# Altium schematic symbol library B0505S.SchLib: 1 symbol
Pins are listed as number, name and electrical type; pins without a type are passive.

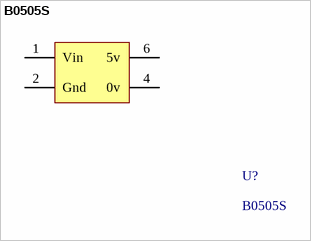
[diagram p0: symbol B0505S]

## B0505S
designator U?
cam
footprint B0505S
pins: 1 Vin, 2 Gnd, 4 0v, 6 5v